# Altium footprint library BTT_connector.PcbLib: 2 footprints
Each footprint in its own frame and in the unit in brackets; x right, y up, seen from the top. Pads: shape width x height; smd on the part's side, far side on the other; paste and mask are expansions set on the pad; w line width, h text height; cw(c..) or ccw(c..) is an arc to the next point about the centre after c.
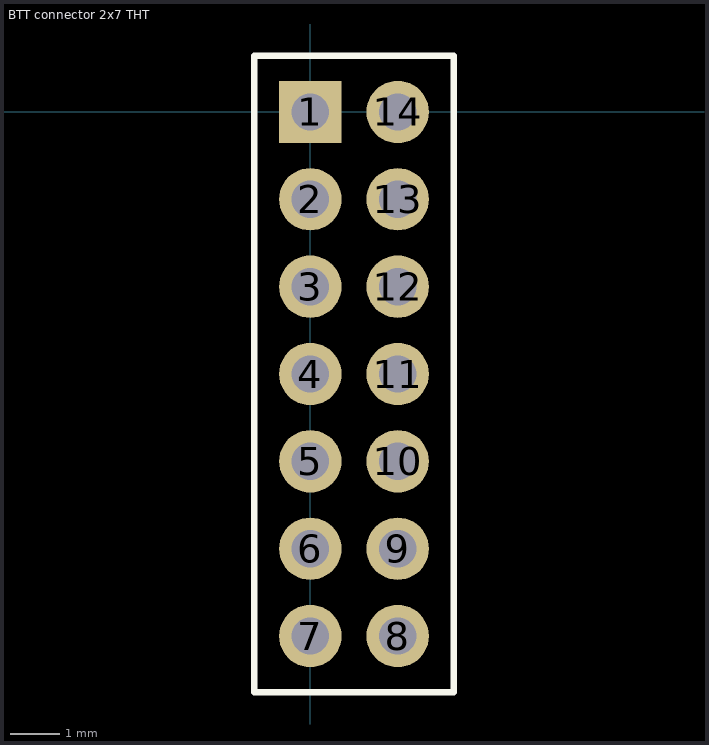
[diagram p0: the footprints below, top view; thin cyan lines are the x and y axes]

## BTT connector 2x7 THT [mil]
pads (14):
  rect 50x50 hole 30: 1(0,0)
  round 50 hole 30: 2(0,-70) 3(0,-140) 4(0,-210) 5(0,-280) 6(0,-350) 7(0,-420) 8(70,-420) 9(70,-350) 10(70,-280) 11(70,-210) 12(70,-140) 13(70,-70) 14(70,0)
Top Overlay:
  lines w5: -45,-465 115,-465 115,45 -45,45 -45,-465

## PCBComponent_1 [mil]